# Altium footprint library DFLR1200.PcbLib: 1 footprints
Each footprint in its own frame and in the unit in brackets; x right, y up, seen from the top. Pads: shape width x height; smd on the part's side, far side on the other; paste and mask are expansions set on the pad; w line width, h text height; cw(c..) or ccw(c..) is an arc to the next point about the centre after c.
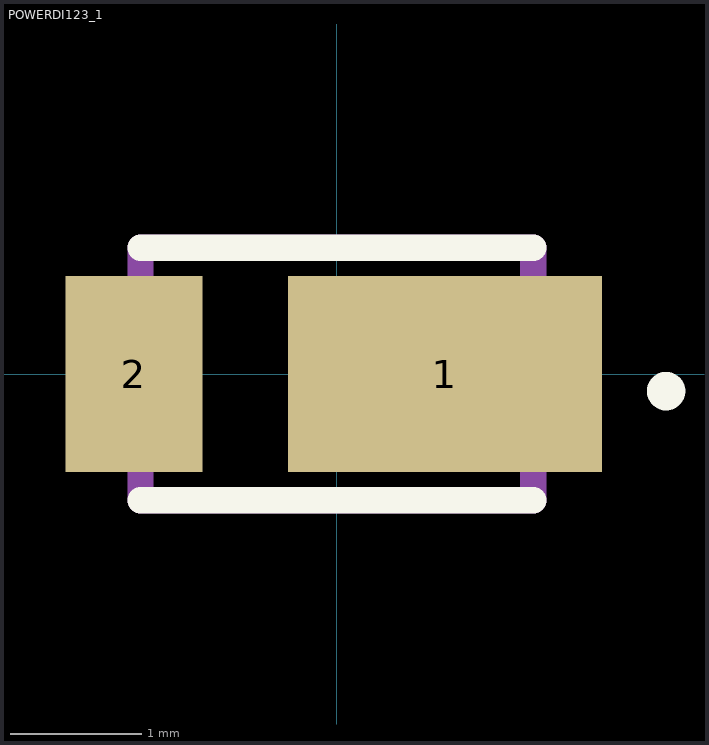
[diagram p0: the footprint, top view; thin cyan lines are the x and y axes]

## POWERDI123_1 [mm]
pads (2):
  rect 2.4x1.5 smd: 1(0.825,0)
  rect 1.05x1.5 smd: 2(-1.55,0)
Top Overlay:
  circle w0.2: c2.515,-0.131 r0.046
  lines w0.2: -1.5,-0.965 1.5,-0.965 ; -1.5,0.965 1.5,0.965
Mechanical 13:
  lines w0.2: -1.5,-0.965 1.5,-0.965 1.5,0.965 -1.5,0.965 -1.5,-0.965